# Altium schematic symbol library SJ1-3523N.SchLib: 1 symbol
Pins are listed as number, name and electrical type; pins without a type are passive.

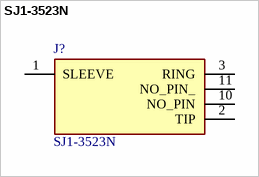
[diagram p0: symbol SJ1-3523N]

## SJ1-3523N
designator J?
Phone Connectors 3.5 MM AUDIO JACK; Manufacturer_Name: Same Sky; Geometry.Height: 5.5mm; Mouser Part Number: 490-SJ1-3523N; Mouser Price/Stock: https://www.mouser.co.uk/ProductDetail/CUI-Devices/SJ1-3523N?qs=WyjlAZoYn50aNl0vAhb3Tg%3D%3D; Manufacturer_Part_Number: SJ1-3523N; Datasheet Link: https://componentsearchengine.com/Datasheets/1/SJ1-3523N.pdf
footprint SJ13523N
pins: 1 SLEEVE, 2 TIP, 3 RING, 10 NO_PIN, 11 NO_PIN_